# Altium schematic symbol library SN74HC147.SchLib: 1 symbol
Pins are listed as number, name and electrical type; pins without a type are passive.

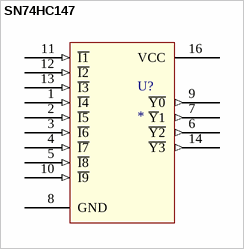
[diagram p0: symbol SN74HC147]

## SN74HC147
designator U?
pins: 1 ~{I4} (in), 2 ~{I5} (in), 3 ~{I6} (in), 4 ~{I7} (in), 5 ~{I8} (in), 6 ~{Y2} (out), 7 ~{Y}1 (out), 8 GND (power), 9 ~{Y0} (out), 10 ~{I9} (in), 11 ~{I1} (in), 12 ~{I2} (in), 13 ~{I3} (in), 14 ~{Y3} (out), 16 VCC (power)